# Altium footprint library PcbLib.PcbLib: 67 footprints (part 5 of 5)
Each footprint in its own frame and in the unit in brackets; x right, y up, seen from the top. Pads: shape width x height; smd on the part's side, far side on the other; paste and mask are expansions set on the pad; w line width, h text height; cw(c..) or ccw(c..) is an arc to the next point about the centre after c.
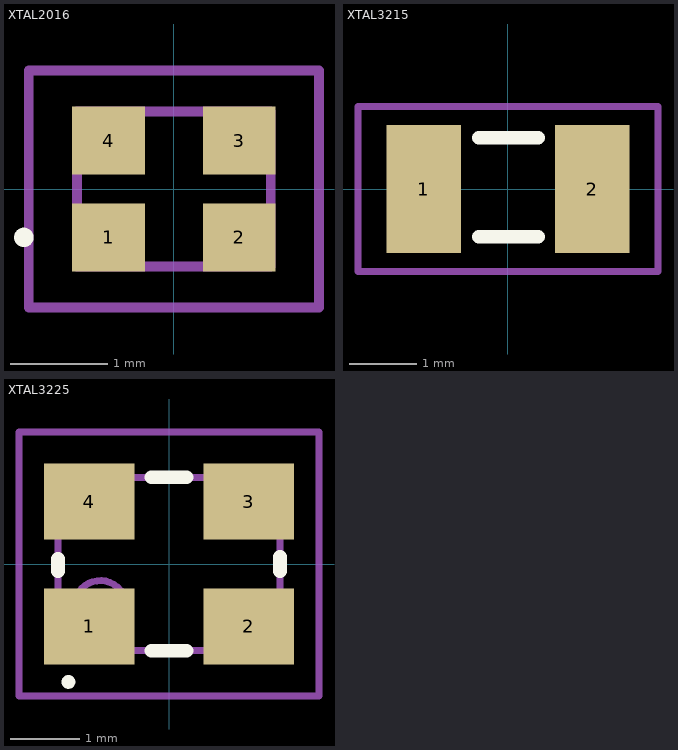
[diagram p4: the footprints below, top view; thin cyan lines are the x and y axes]

## XTAL2016 [mm]
pads (4):
  rect 0.75x0.7 smd: 1(-0.675,-0.5) 2(0.675,-0.5) 3(0.675,0.5) 4(-0.675,0.5)
Top Overlay:
  lines w0.1: -1.6,-0.5 cw(c-1.55,-0.5) -1.5,-0.5 cw(c-1.55,-0.5) -1.6,-0.5
Mechanical 13:
  lines w0.1: -1,-0.8 -1,0.8 1,0.8 1,-0.8 -1,-0.8
Mechanical 15:
  lines w0.1: -1.5,-1.225 1.5,-1.225 1.5,1.225 -1.5,1.225 -1.5,-1.225
3D body "NX2016SA-25.000M-STD-CZS-1.stp": height 0.46, standoff 0.01, extent -1,-0.8 1,0.8

## XTAL3215 [mm]
pads (2):
  rect 1.1x1.9 smd: 1(-1.25,0) 2(1.25,0)
Top Overlay:
  lines w0.2: -0.437,-0.711 0.452,-0.711 ; -0.437,0.762 0.452,0.762
Mechanical 15:
  lines w0.1: -2.225,-1.225 2.225,-1.225 2.225,1.225 -2.225,1.225 -2.225,-1.225
3D body "Crystal_3215.stp": height 0.8, standoff -0.03, extent -1.6,-0.75 1.6,0.75

## XTAL3225 [mm]
pads (4):
  rect 1.3x1.1 smd: 1(-1.15,-0.9) 2(1.15,-0.9) 3(1.15,0.9) 4(-1.15,0.9)
Top Overlay:
  lines w0.1: -1.5,-1.7 ccw(c-1.45,-1.7) -1.4,-1.7 ccw(c-1.45,-1.7) -1.5,-1.7
  lines w0.2: -1.6,-0.1 -1.6,0.075 ; -0.25,-1.25 0.252,-1.25 ; -0.25,1.25 0.252,1.251 ; 1.6,-0.1 1.6,0.1
Mechanical 13:
  circle w0.1: c-0.99,-0.615 r0.376
  lines w0.1: -1.6,-1.25 -1.6,1.25 1.6,1.25 1.6,-1.25 -1.6,-1.25
Mechanical 15:
  lines w0.1: -2.163,-1.9 2.163,-1.9 2.163,1.9 -2.163,1.9 -2.163,-1.9
3D body "3225 SMD Crystal Oscillator.STEP": height 0.65, standoff -0.05, extent -1.6,-1.25 1.6,1.25